# Altium schematic symbol library ADUM3221ARZ.SchLib: 1 symbol
Pins are listed as number, name and electrical type; pins without a type are passive.

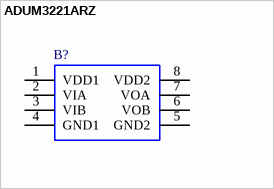
[diagram p0: symbol ADUM3221ARZ]

## ADUM3221ARZ
designator B?
Analog Devices ADUM3221ARZ PCB SMT Digital Isolator, 2500 V, 8-Pin SOIC N; Geometry.Height: 1.75mm; Manufacturer_Name: Analog Devices; Manufacturer_Part_Number: ADUM3221ARZ; Mouser Part Number: 584-ADUM3221ARZ; Mouser Price/Stock: https://www.mouser.co.uk/ProductDetail/Analog-Devices/ADUM3221ARZ?qs=WIvQP4zGanj4w8f7RObJXQ%3D%3D; Arrow Part Number: ADUM3221ARZ; Arrow Price/Stock: https://www.arrow.com/en/products/adum3221arz/analog-devices?region=nac; Mouser Testing Part Number: *; Mouser Testing Price/Stock: *; Datasheet Link: https://www.analog.com/media/en/technical-documentation/data-sheets/ADuM3220_3221.pdf
footprint SOIC127P600X175-8N
pins: 1 VDD1, 2 VIA, 3 VIB, 4 GND1, 5 GND2, 6 VOB, 7 VOA, 8 VDD2